# Altium footprint library SON_65P_V.PcbLib: 2 footprints
Each footprint in its own frame and in the unit in brackets; x right, y up, seen from the top. Pads: shape width x height; smd on the part's side, far side on the other; paste and mask are expansions set on the pad; w line width, h text height; cw(c..) or ccw(c..) is an arc to the next point about the centre after c.
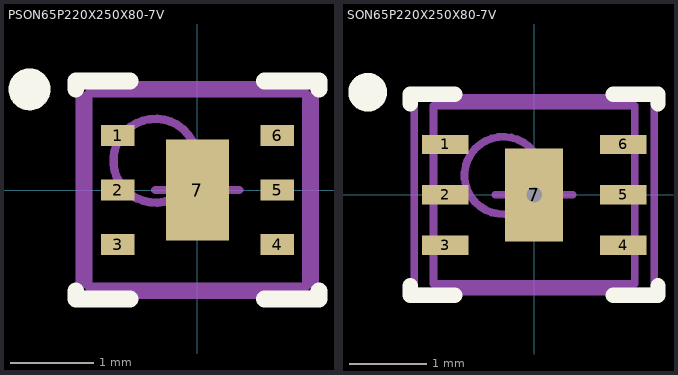
[diagram p0: the footprints below, top view; thin cyan lines are the x and y axes]

## PSON65P220X250X80-7V [mm] "PSON, 6-Leads, Body 2.2x2.5 mm, Pitch 0.65mm, NSC Recommended (SC-70 Land)"
height 0.8
pads (7):
  rect 0.4x0.25 smd paste-0.125 mask+0.051: 1(-0.95,0.65) 2(-0.95,0) 3(-0.95,-0.65) 4(0.95,-0.65) 5(0.95,0) 6(0.95,0.65)
  rect 0.75x1.2 smd paste-0.375 mask+0.051: 7(0,0)
Top Overlay:
  circle w0.25: c-2,1.2 r0.125
  lines w0.2: -1.45,-1.3 -1.45,-1.2 ; -1.45,1.2 -1.45,1.3 ; -1.445,-1.3 -0.8,-1.3 ; -1.445,1.3 -0.8,1.3 ; 0.8,-1.3 1.445,-1.3 ; 0.8,1.3 1.445,1.3 ; 1.45,-1.3 1.45,-1.2 ; 1.45,1.2 1.45,1.3
Top Paste:
  rectangle: -0.355,-0.57 0.355,0.57
  region: 1.25,0.775 0.85,0.775 0.85,0.525 1.25,0.525
  region: 1.25,0.125 0.85,0.125 0.85,-0.125 1.25,-0.125
  region: 1.25,-0.525 0.85,-0.525 0.85,-0.775 1.25,-0.775
  rectangle: -1.25,0.525 -0.85,0.775
  rectangle: -1.25,-0.125 -0.85,0.125
  rectangle: -1.25,-0.775 -0.85,-0.525
Mechanical 13:
  circle w0.1: c-0.5,0.35 r0.5
  lines w0.1: -1.3,-1.15 -1.3,1.15 1.3,1.15 1.3,-1.15 -1.3,-1.15
Mechanical 15:
  lines w0.1: -0.5,0 0.5,0 ; 0,-0.5 0,0.5 ; -1.4,-1.25 -1.4,1.25 1.4,1.25 1.4,-1.25 -1.4,-1.25

## SON65P220X250X80-7V [mm] "SON, 6-Leads, Body 2.2x2.5mm, Pitch 0.65mm, NSC Recommended (SC-70 Land)"
height 0.8
pads (7):
  rect 0.6x0.25 smd paste-0.125 mask+0.051: 1(-1.15,0.65) 2(-1.15,0) 3(-1.15,-0.65) 4(1.15,-0.65) 5(1.15,0) 6(1.15,0.65)
  rect 0.75x1.2 smd paste-0.6 mask+0.051: 7(0,0)
via 0,0 diameter 0.5 hole 0.2
Top Overlay:
  circle w0.25: c-2.15,1.325 r0.125
  lines w0.2: -1.6,-1.175 -1.6,-1.3 -1.025,-1.3 ; -1.6,1.175 -1.6,1.3 -1.025,1.3 ; 1.025,-1.3 1.6,-1.3 1.6,-1.175 ; 1.025,1.3 1.6,1.3 1.6,1.175
Top Paste:
  region: 0.95,0.775 0.95,0.525 1.65,0.525 1.65,0.775
  region: 0.95,0.125 0.95,-0.125 1.65,-0.125 1.65,0.125
  region: 0.95,-0.525 0.95,-0.775 1.65,-0.775 1.65,-0.525
  region: -1.65,-0.525 -1.65,-0.775 -0.95,-0.775 -0.95,-0.525
  region: -1.65,0.125 -1.65,-0.125 -0.95,-0.125 -0.95,0.125
  region: -1.65,0.775 -1.65,0.525 -0.95,0.525 -0.95,0.775
  region: -0.355,0.57 -0.355,-0.57 0.355,-0.57 0.355,0.57
Mechanical 13:
  circle w0.1: c-0.4,0.25 r0.5
  lines w0.1: -1.3,-1.15 -1.3,1.15 1.3,1.15 1.3,-1.15 -1.3,-1.15
Mechanical 15:
  lines w0.1: -0.5,0 0.5,0 ; 0,-0.5 0,0.5 ; -1.55,-1.25 -1.55,1.25 1.55,1.25 1.55,-1.25 -1.55,-1.25
3D body: height 0.8, standoff 0, extent -1.3,-1.15 1.3,1.15